# EAGLE library part TPD2S017 (library kiks-ic)
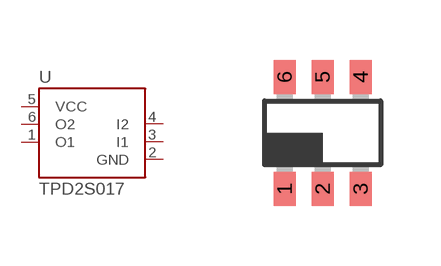
[diagram p8: symbol with the pads of SOT23-6; footprint SOT23-6]

Designator prefix U

## TPD2S017  [SOT23-6]
1  O1
2  GND
3  I1
4  I2
5  VCC
6  O2

## Footprint SOT23-6 (pad centres in mm)
smd 0.55 x 0.85: 1 -0.95,-1.4; 2 0,-1.4; 3 0.95,-1.4; 4 0.95,1.4; 5 0,1.4; 6 -0.95,1.4